# Altium footprint library PCB_E-button.PcbLib: 7 footprints
Each footprint in its own frame and in the unit in brackets; x right, y up, seen from the top. Pads: shape width x height; smd on the part's side, far side on the other; paste and mask are expansions set on the pad; w line width, h text height; cw(c..) or ccw(c..) is an arc to the next point about the centre after c.
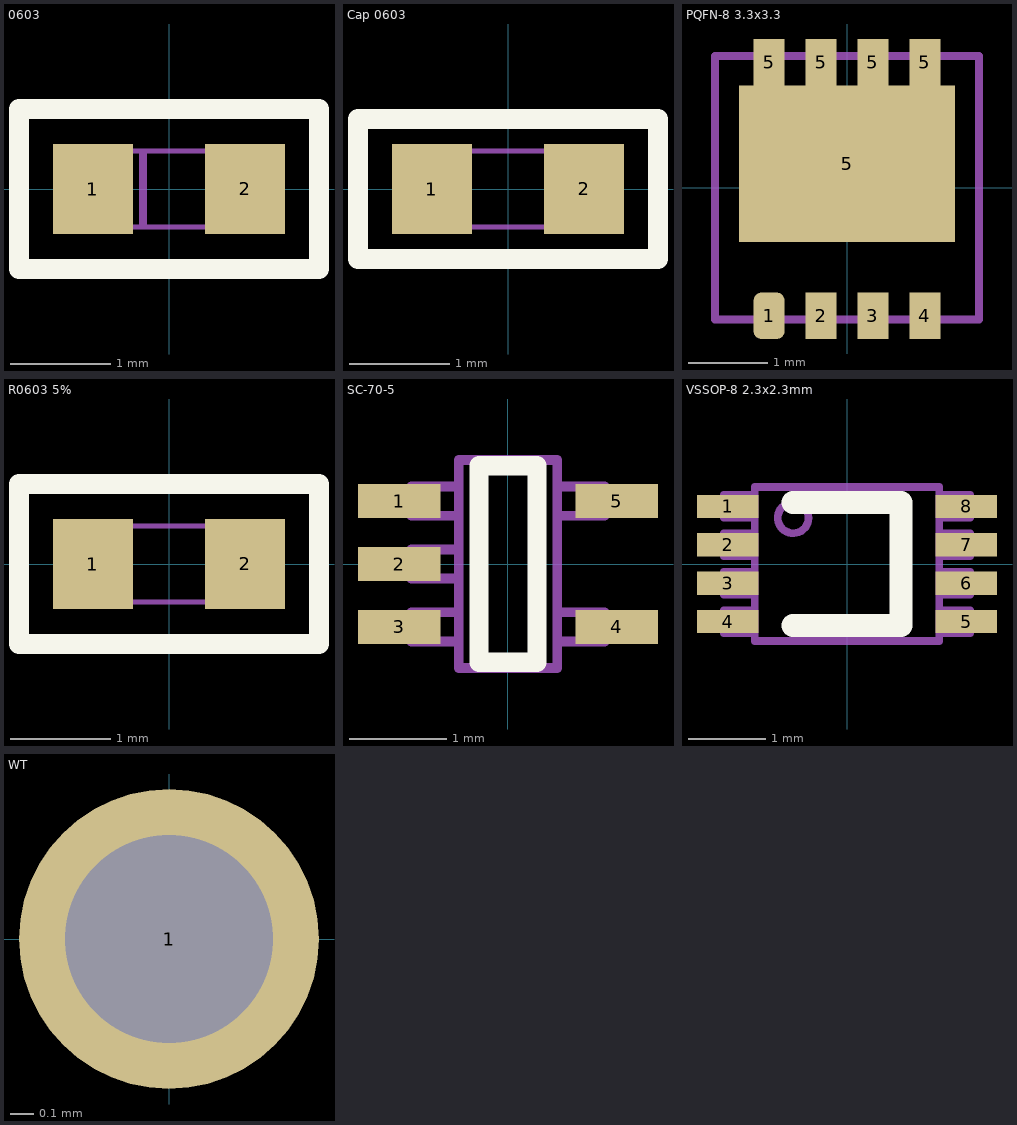
[diagram p0: the footprints below, top view; thin cyan lines are the x and y axes]

## 0603 [mm]
pads (2):
  rect 0.8x0.9 smd: 1(-0.762,0) 2(0.762,0)
Top Overlay:
  lines w0.2: -1.5,-0.8 1.5,-0.8 1.5,0.8 -1.5,0.8 -1.5,-0.8
Mechanical 1:
  lines w0.05: -0.762,-0.3 -0.475,-0.3 -0.475,0.291 -0.762,0.291 ; -0.762,0.2 cw(c-0.762,0) -0.762,-0.2 -0.762,-0.381 0.762,-0.381 0.762,-0.2 cw(c0.762,0) 0.762,0.2 ; -0.762,0.2 -0.762,0.381 0.762,0.381 0.762,0.2 ; -0.275,-0.381 -0.275,0.381 ; -0.244,-0.381 -0.244,0.381 ; 0.762,-0.3 0.475,-0.3 0.475,0.291 0.762,0.291
  text ".Designator" at -1.175,0.558 h0.7
  text ".Comment" at -0.457,-0.127 h0.51
3D body "0603.STEP": height 0.64, standoff -0.02, extent -0.8,-0.45 0.8,0.45

## Cap 0603 [mm]
pads (2):
  rect 0.8x0.9 smd: 1(-0.762,0) 2(0.762,0)
Top Overlay:
  lines w0.2: -1.5,-0.7 1.5,-0.7 1.5,0.7 -1.5,0.7 -1.5,-0.7
Mechanical 1:
  lines w0.05: -0.508,-0.381 -0.508,0.381 ; 0.508,-0.381 0.508,0.381 ; -0.762,-0.381 -0.762,0.381 0.762,0.381 0.762,-0.381 -0.762,-0.381
  text ".Comment" at -0.381,-0.127 h0.51
  text ".Designator" at -1.27,0.635 h0.8
3D body "User Library-CapCeramic_Kemet_0603_1608.step": height 0.8, standoff 0, extent -0.8,-0.4 0.8,0.4

## PQFN-8 3.3x3.3 [mm]
pads (9):
  rrect50% 0.39x0.58 smd: 1(-0.975,-1.605)
  rect 0.39x0.58 smd: 2(-0.325,-1.605) 3(0.325,-1.605) 4(0.975,-1.605) 5(-0.975,1.57) 5(-0.325,1.57) 5(0.325,1.57) 5(0.975,1.57)
  rect 2.7x1.96 smd paste-2: 5(0,0.3)
Top Paste:
  region: -0.12,-0.12 -1.315,-0.12 -1.315,-0.6 -0.12,-0.6
  rectangle: 0.125,-0.6 1.32,-0.12
  rectangle: 0.125,0.1 1.32,0.58
  rectangle: -1.32,0.1 -0.125,0.58
  rectangle: 0.125,0.8 1.32,1.28
  rectangle: -1.32,0.8 -0.125,1.28
Mechanical 1:
  lines w0.1: -1.65,-1.65 -1.65,1.65 1.65,1.65 1.65,-1.65 -1.65,-1.65
  text "'.Designator'" at -1.5,2 h0.8
  text "'.Comment'" at -1.5,-0.5 h0.8
3D body "User Library-PQFN8.step": height 0.76, standoff -0.04, extent -1.65,-1.65 1.65,1.65

## R0603 5% [mm]
pads (2):
  rect 0.8x0.9 smd: 1(-0.762,0) 2(0.762,0)
Top Overlay:
  lines w0.2: -1.5,-0.8 -1.5,0.8 1.5,0.8 1.5,-0.8 -1.5,-0.8
Mechanical 1:
  lines w0.05: -0.725,-0.375 -0.725,0.375 ; -0.7,-0.375 -0.7,0.375 ; -0.65,-0.381 -0.65,0.381 ; -0.6,-0.381 -0.6,0.381 ; -0.55,-0.381 -0.55,0.375 ; -0.508,-0.381 -0.508,0.381 ; 0.508,-0.381 0.508,0.381 ; 0.55,-0.381 0.55,0.375 ; 0.6,-0.381 0.6,0.381 ; 0.65,-0.381 0.65,0.381 ; 0.7,-0.375 0.7,0.375 ; 0.725,-0.375 0.725,0.375 ; -0.762,-0.381 -0.762,0.381 ; -0.762,-0.381 -0.762,0.381 ; -0.762,-0.381 0.762,-0.381 0.762,0.381 -0.762,0.381
  text ".Comment" at -0.457,-0.127 h0.51
  text ".Designator" at -1.175,0.558 h0.7
3D body "User Library-SMD Resistors0603.STEP": height 0.43, standoff -0.03, extent -0.775,-0.43 0.775,0.43

## SC-70-5 [mm]
pads (5):
  rect 0.85x0.35 smd: 1(-1.125,0.65) 2(-1.125,0) 3(-1.125,-0.65) 4(1.125,-0.65) 5(1.125,0.65)
Top Overlay:
  lines w0.2: -0.3,-1.016 0.3,-1.016 0.3,1.016 -0.3,1.016 -0.3,-1.016
Mechanical 1:
  lines w0.1: -0.508,-0.8 -1,-0.8 -1,-0.5 -0.508,-0.5 ; -0.508,-0.15 -1,-0.15 -1,0.15 -0.508,0.15 ; -0.508,0.5 -1,0.5 -1,0.8 -0.508,0.8 ; 0.508,-0.8 1,-0.8 1,-0.5 0.508,-0.5 ; 0.508,0.5 1,0.5 1,0.8 0.508,0.8 ; -0.508,-1.075 -0.508,1.075 0.508,1.075 0.508,-1.075 -0.508,-1.075
  text "'.Designator'" at -1.3,1.3 h1
  text "'.Comment'" at 0.3,-1 h0.7
3D body "User Library-SC70-5-1.step": height 0.95, standoff 0, extent -1.05,-1 1.05,1

## VSSOP-8 2.3x2.3mm [mm]
pads (8):
  rect 0.8x0.3 smd: 1(-1.55,0.75) 2(-1.55,0.25) 3(-1.55,-0.25) 4(-1.55,-0.75) 5(1.55,-0.75) 6(1.55,-0.25) 7(1.55,0.25) 8(1.55,0.75)
Top Overlay:
  lines w0.3: -0.7,-0.8 0.7,-0.8 0.7,0.8 -0.7,0.8
Mechanical 1:
  circle w0.1: c-0.7,0.6 r0.2
  lines w0.1: -1.437,-0.8 -1.437,-0.687 ; -1.437,-0.3 -1.437,-0.187 ; -1.437,0.2 -1.437,0.313 ; -1.437,0.7 -1.437,0.813 ; -1.2,-0.9 -1.6,-0.9 -1.6,-0.6 -1.2,-0.6 ; -1.2,-0.4 -1.6,-0.4 -1.6,-0.1 -1.2,-0.1 ; -1.2,0.1 -1.6,0.1 -1.6,0.4 -1.2,0.4 ; -1.2,0.6 -1.6,0.6 -1.6,0.9 -1.2,0.9 ; 1.2,-0.9 1.6,-0.9 1.6,-0.6 1.2,-0.6 ; 1.2,-0.4 1.6,-0.4 1.6,-0.1 1.2,-0.1 ; 1.2,0.1 1.6,0.1 1.6,0.4 1.2,0.4 ; 1.2,0.6 1.6,0.6 1.6,0.9 1.2,0.9 ; 1.437,-0.8 1.437,-0.687 ; 1.437,-0.3 1.437,-0.187 ; 1.437,0.2 1.437,0.313 ; 1.437,0.7 1.437,0.813 ; -1.2,-1 -1.2,1 1.2,1 1.2,-1 -1.2,-1
  text "'.Comment'" at -1.2,-0.9 h0.7
  text "'.Designator'" at -1.5,1.2 h1
3D body "SOP127P600-8N.step": height 0.75, standoff 0, extent -1.549,-1.05 1.549,1.05

## WT [mm]
pads (1):
  round 1.3 hole 0.9: 1(0,0)
Mechanical 3:
  text ".Designator" at -0.85,0.825 h0.8